# EAGLE library part MCP1727 (library dawidkulpa_dev)
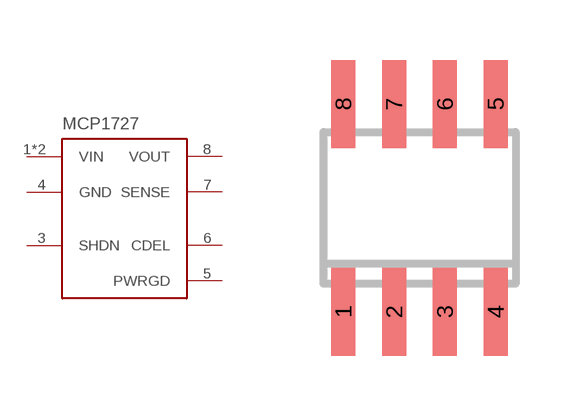
[diagram p21: symbol with the pads of SOIC8; footprint SOIC8]

Designator prefix -

## MCP1727  [SOIC8]
1  VIN
2  VIN
3  SHDN
4  GND
5  PWRGD
6  CDEL
7  SENSE
8  VOUT

## Footprint SOIC8 (pad centres in mm)
Small Outline IC
smd 0.6 x 2.2: 1 -1.905,-2.6; 2 -0.635,-2.6; 3 0.635,-2.6; 4 1.905,-2.6; 5 1.905,2.6; 6 0.635,2.6; 7 -0.635,2.6; 8 -1.905,2.6